# Altium footprint library TRANS-MM.PcbLib: 63 footprints (part 1 of 4)
Each footprint in its own frame and in the unit in brackets; x right, y up, seen from the top. Pads: shape width x height; smd on the part's side, far side on the other; paste and mask are expansions set on the pad; w line width, h text height; cw(c..) or ccw(c..) is an arc to the next point about the centre after c.
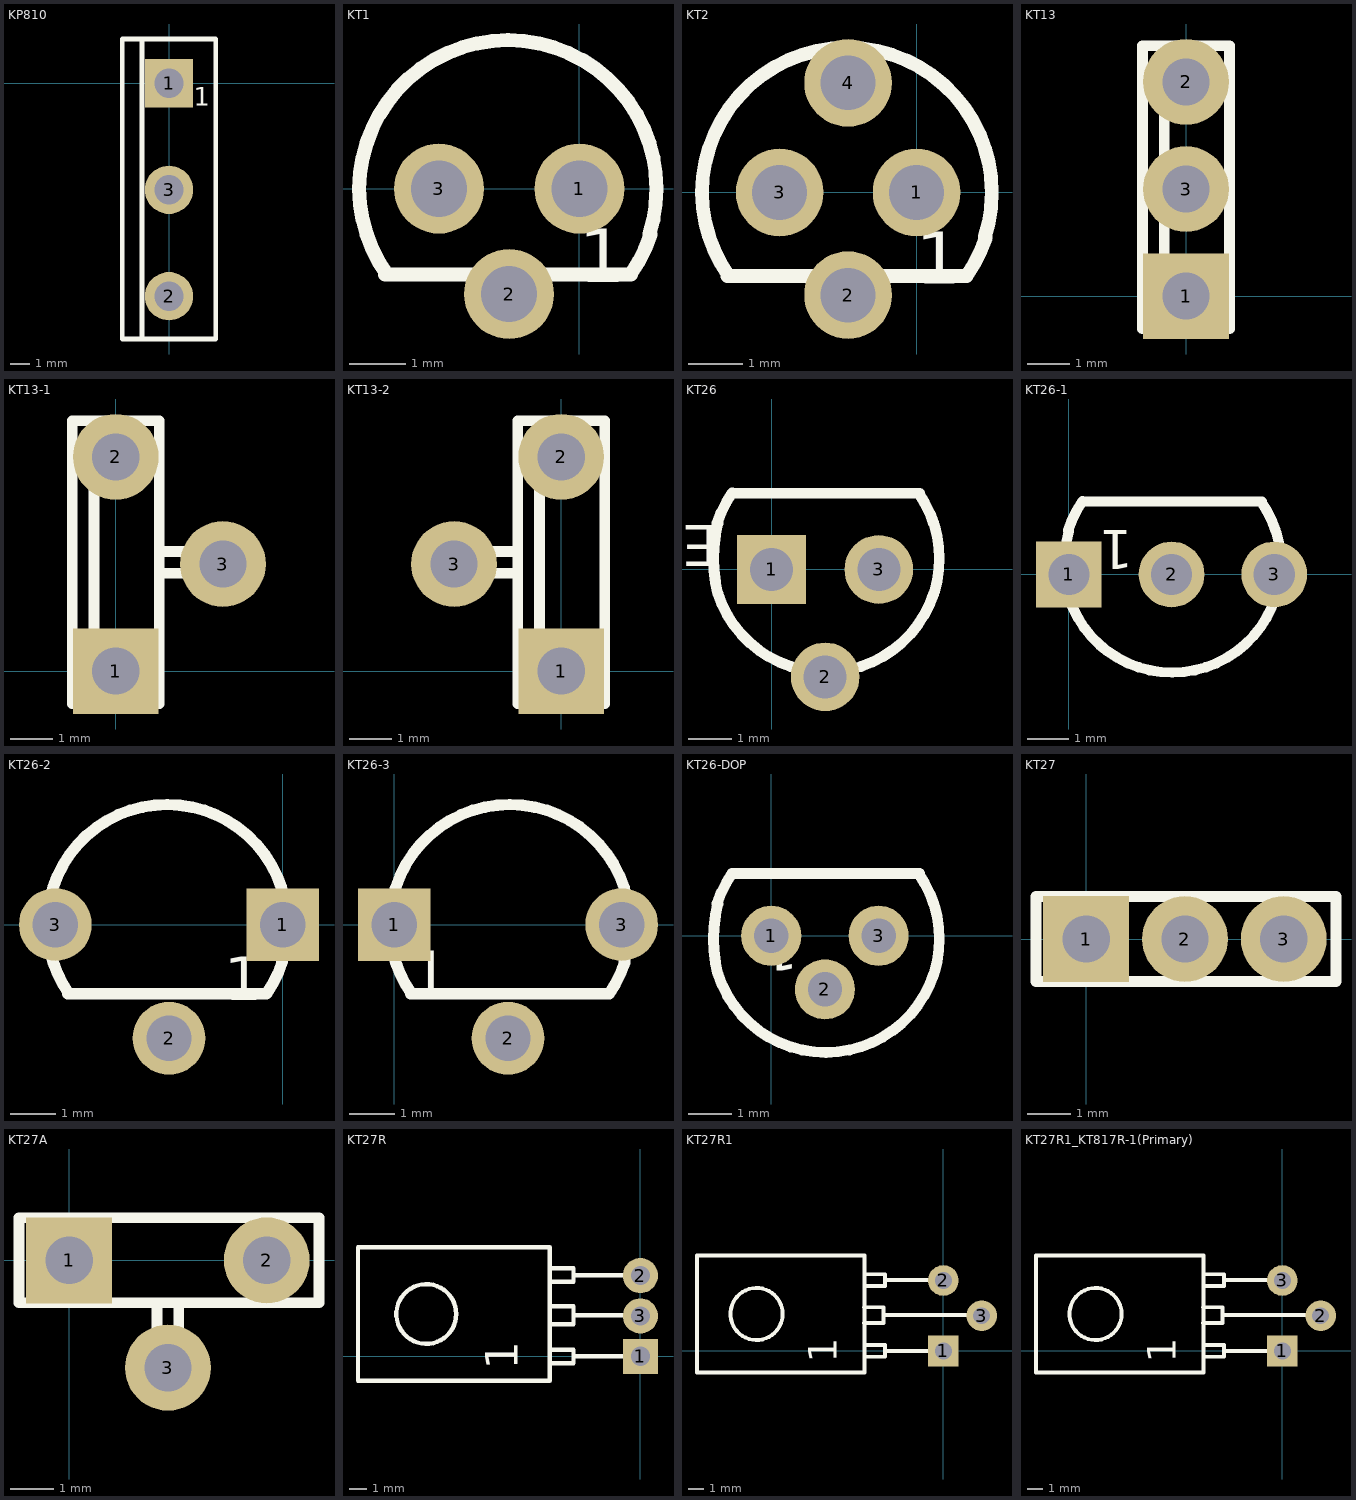
[diagram p0: the footprints below, top view; thin cyan lines are the x and y axes]

## KP810 [mm]
pads (3):
  rect 2.5x2.5 hole 1.5: 1(0,0)
  round 2.5 hole 1.5: 2(0,-11) 3(0,-5.5)
Top Overlay:
  lines w0.254: -1.397,-13.208 -1.397,2.286 ; -2.413,-13.208 2.413,-13.208 2.413,2.286 -2.413,2.286 -2.413,-10.922 -2.413,-13.208
  text "1" at 1.27,-1.156 h0.95

## KT1 [mm]
pads (3):
  round 1.6 hole 1: 1(0,0) 2(-1.25,-1.875) 3(-2.5,0)
Top Overlay:
  lines w0.25: -3.454,-1.524 0.914,-1.524 ccw(c-1.27,0) 1.265,-0.819 ; -3.435,-1.516 cw(c-1.27,0) -3.783,-0.817 cw(c-1.372,0) -3.783,0.816 cw(c-1.27,0) 1.245,0.812 cw(c-1.27,0) 1.245,-0.812
  text "1" at -0.013,-1.664 h0.95

## KT2 [mm]
pads (4):
  round 1.6 hole 1: 1(0,0) 2(-1.25,-1.875) 3(-2.5,0) 4(-1.25,2)
Top Overlay:
  lines w0.025: -1.295,2.667 -1.27,2.667
  lines w0.25: -3.454,-1.524 0.914,-1.524 ccw(c-1.27,0) 1.265,-0.819 ; -3.435,-1.516 cw(c-1.27,0) -3.783,-0.817 cw(c-1.372,0) -3.783,0.816 cw(c-1.27,0) 1.245,0.812 cw(c-1.27,0) 1.245,-0.812
  text "1" at -0.013,-1.664 h0.95

## KT13 [mm]
pads (3):
  rect 2x2 hole 1.1: 1(0,0)
  round 2 hole 1.1: 2(0,5) 3(0,2.5)
Top Overlay:
  lines w0.25: -0.508,-0.762 -0.508,5.842 ; -1.016,-0.762 1.016,-0.762 1.016,5.842 -1.016,5.842 -1.016,-0.762

## KT13-1 [mm]
pads (3):
  rect 2x2 hole 1.1: 1(0,0)
  round 2 hole 1.1: 2(0,5) 3(2.5,2.5)
Top Overlay:
  lines w0.25: -0.508,-0.762 -0.508,5.842 ; 1.016,2.286 2.667,2.286 2.667,2.794 1.016,2.794 ; -1.016,-0.762 1.016,-0.762 1.016,5.842 -1.016,5.842 -1.016,-0.762

## KT13-2 [mm]
pads (3):
  rect 2x2 hole 1.1: 1(0,0)
  round 2 hole 1.1: 2(0,5) 3(-2.5,2.5)
Top Overlay:
  lines w0.25: -1.016,2.286 -2.667,2.286 -2.667,2.794 -1.016,2.794 ; -0.508,-0.762 -0.508,5.842 ; -1.016,-0.762 1.016,-0.762 1.016,5.842 -1.016,5.842 -1.016,-0.762

## KT26 [mm]
pads (3):
  rect 1.6x1.6 hole 1: 1(0,0)
  round 1.6 hole 1: 2(1.25,-2.5) 3(2.5,0)
Top Overlay:
  lines w0.25: -1.269,1.077 cw(c1.265,0.254) -0.917,1.782 ; -1.249,-0.562 cw(c1.95,0.254) -1.249,1.07 ; -1.249,-0.563 ccw(c1.265,0.254) 3.779,-0.558 ; -0.92,1.778 3.449,1.778 ; 3.432,1.766 cw(c1.265,0.254) 3.779,1.066 ; 3.805,-0.505 ccw(c1.087,0.254) 3.805,1.013
  text "E" at -1.251,1.029 h0.95

## KT26-1 [mm]
pads (3):
  rect 1.6x1.6 hole 1: 1(0,0)
  round 1.6 hole 1: 2(2.5,0) 3(5,0)
Top Overlay:
  lines w0.25: -0.019,1.077 cw(c2.515,0.254) 0.333,1.782 ; 0.001,-0.563 ccw(c2.515,0.254) 5.029,-0.558 ; 0.001,-0.562 cw(c3.2,0.254) 0.001,1.07 ; 0.33,1.778 4.699,1.778 ; 4.682,1.766 cw(c2.515,0.254) 5.029,1.066 ; 5.055,-0.505 ccw(c2.337,0.254) 5.055,1.013
  text "1" at 1.562,1.079 h0.95

## KT26-2 [mm]
pads (3):
  rect 1.6x1.6 hole 1: 1(0,0)
  round 1.6 hole 1: 2(-2.5,-2.5) 3(-5,0)
Top Overlay:
  lines w0.025: -2.565,2.667 -2.54,2.667
  lines w0.25: -4.724,-1.524 -0.356,-1.524 ccw(c-2.54,0) -0.005,-0.819 ; -4.705,-1.516 cw(c-2.54,0) -5.053,-0.817 cw(c-2.642,0) -5.053,0.816 cw(c-2.54,0) -0.025,0.812 cw(c-2.54,0) -0.025,-0.812
  text "1" at -1.283,-1.664 h0.95

## KT26-3 [mm]
pads (3):
  rect 1.6x1.6 hole 1: 1(0,0)
  round 1.6 hole 1: 2(2.5,-2.5) 3(5,0)
Top Overlay:
  lines w0.025: 2.515,2.667 2.54,2.667
  lines w0.25: 0.356,-1.524 4.724,-1.524 ccw(c2.54,0) 5.075,-0.819 ; 0.375,-1.516 cw(c2.54,0) 0.027,-0.817 cw(c2.438,0) 0.027,0.816 cw(c2.54,0) 5.055,0.812 cw(c2.54,0) 5.055,-0.812
  text "1" at 0.368,-1.537 h0.95

## KT26-DOP [mm]
pads (3):
  round 1.4 hole 0.8: 1(0,0) 2(1.25,-1.25) 3(2.5,0)
Top Overlay:
  lines w0.25: -1.263,0.747 cw(c1.27,-0.076) -0.912,1.452 ; -1.243,-0.893 ccw(c1.27,-0.076) 3.785,-0.888 ; -1.244,-0.892 cw(c1.956,-0.076) -1.244,0.739 ; -0.914,1.448 3.454,1.448 ; 3.437,1.436 cw(c1.27,-0.076) 3.785,0.736 ; 3.811,-0.835 ccw(c1.092,-0.076) 3.811,0.683
  text "1" at 0.622,0.14 h0.95

## KT27 [mm]
pads (3):
  rect 2x2 hole 1.1: 1(0,0)
  round 2 hole 1.1: 2(2.3,0) 3(4.6,0)
Top Overlay:
  lines w0.25: -1.168,-0.991 5.817,-0.991 5.817,0.991 -1.168,0.991 -1.168,-0.991
  lines w0.254: -1.168,-0.991 5.817,-0.991 5.817,0.991 -1.168,0.991 -1.168,-0.991

## KT27A [mm]
pads (3):
  rect 2x2 hole 1.1: 1(0,0)
  round 2 hole 1.1: 2(4.6,0) 3(2.3,-2.5)
Top Overlay:
  lines w0.25: 2.043,-1.011 2.043,-2.56 2.551,-2.56 2.551,-1.011 ; -1.168,-0.991 5.817,-0.991 5.817,0.991 -1.168,0.991 -1.168,-0.991
  text "1" at -1.032,-0.419 h0.4

## KT27R [mm]
pads (3):
  rect 2x2 hole 1.1: 1(0,0)
  round 2 hole 1.1: 2(0,4.6) 3(0,2.3)
Top Overlay:
  circle w0.25: c-12.192,2.413 r1.702
  lines w0.25: -5.156,-0.381 -3.81,-0.381 -3.81,0.381 -5.156,0.381 ; -5.156,4.245 -3.81,4.245 -3.81,5.007 -5.156,5.007 ; -5.08,1.832 -3.81,1.832 -3.81,2.848 -5.08,2.848 ; -3.81,0 -2.54,0 0,0 ; -3.81,2.34 0,2.34 ; -3.81,4.626 -2.54,4.626 0,4.626 ; -16.078,-1.397 -5.156,-1.397 -5.156,6.223 -16.078,6.223 -16.078,-1.397
  text "1" at -6.35,-0.762 h3.17

## KT27R1 [mm]
pads (3):
  rect 2x2 hole 1.1: 1(0,0)
  round 2 hole 1.1: 2(0,4.6) 3(2.5,2.3)
Top Overlay:
  circle w0.25: c-12.192,2.413 r1.702
  lines w0.25: -5.18,1.832 -3.91,1.832 -3.91,2.848 -5.18,2.848 ; -5.156,-0.381 -3.81,-0.381 -3.81,0.381 -5.156,0.381 ; -5.156,4.245 -3.81,4.245 -3.81,5.007 -5.156,5.007 ; -3.91,2.34 2.44,2.34 ; -3.81,0 -2.54,0 0,0 ; -3.81,4.626 -2.54,4.626 0,4.626 ; -16.078,-1.397 -5.156,-1.397 -5.156,6.223 -16.078,6.223 -16.078,-1.397
  text "1" at -6.35,-0.762 h3.17

## KT27R1_KT817R-1(Primary) [mm]
pads (3):
  rect 2x2 hole 1.1: 1(0,0)
  round 2 hole 1.1: 2(2.5,2.3) 3(0,4.6)
Top Overlay:
  circle w0.25: c-12.192,2.413 r1.702
  lines w0.25: -5.18,1.832 -3.91,1.832 -3.91,2.848 -5.18,2.848 ; -5.156,-0.381 -3.81,-0.381 -3.81,0.381 -5.156,0.381 ; -5.156,4.245 -3.81,4.245 -3.81,5.007 -5.156,5.007 ; -3.91,2.34 2.44,2.34 ; -3.81,0 -2.54,0 0,0 ; -3.81,4.626 -2.54,4.626 0,4.626 ; -16.078,-1.397 -5.156,-1.397 -5.156,6.223 -16.078,6.223 -16.078,-1.397
  text "1" at -6.35,-0.762 h3.17